# Altium schematic symbol library Componentes_base.SchLib: 431 symbols (part 6 of 12)
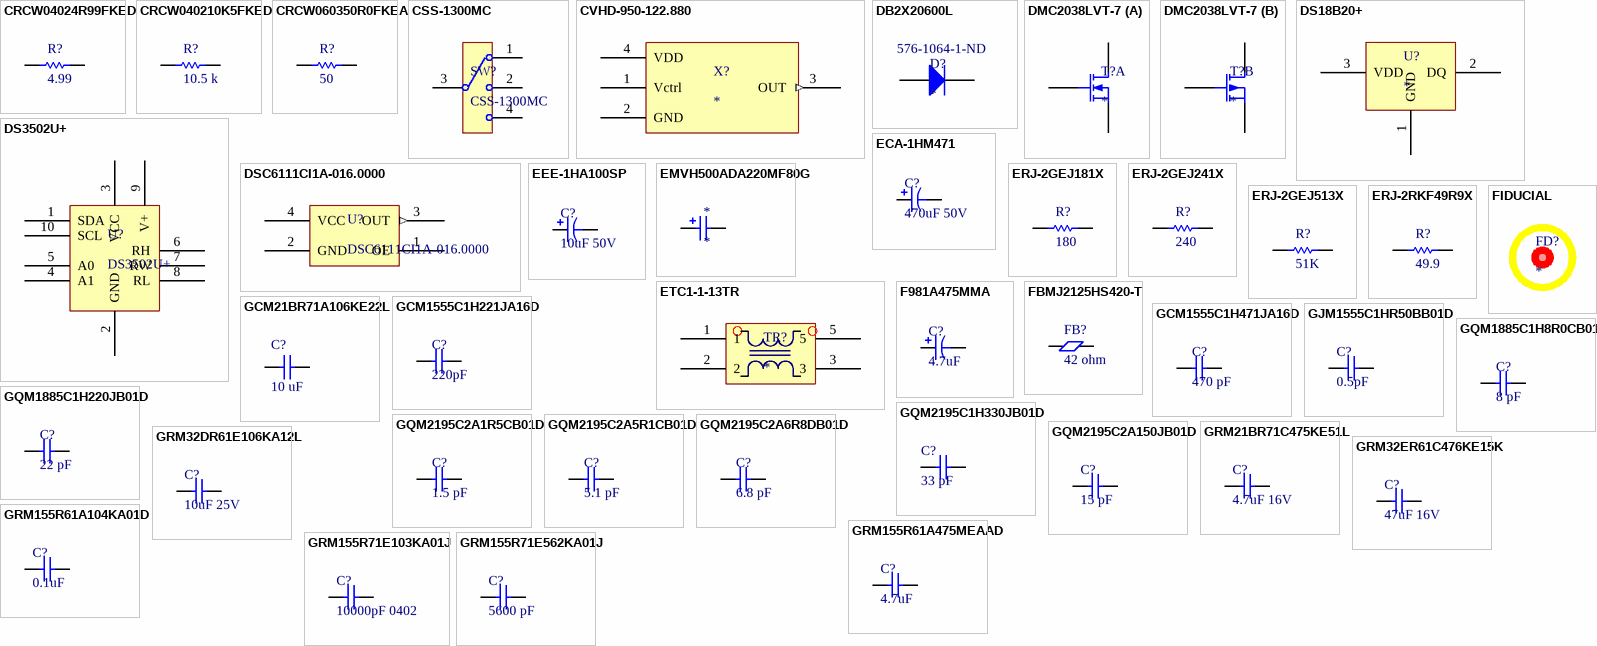
[diagram p19: symbols CRCW04024R99FKED to GRM155R71E562KA01J]

## GQM2195C1H330JB01D
designator C?, comment 33 pF
Multilayer Ceramic Capacitors MLCC - SMD/SMT 0805 33pF 50volts C0G 5%; Manufacturer: Murata Electronics; Manufacturer Part Number: GQM2195C1H330JB01D; Type: High Frequency High Q Type; Voltage Rating DC: 50 V; Case Height: 0.85 mm; Case Length: 2 mm; Case Width: 1.25 mm; Dielectric: C0G (NP0); Temperature Coefficient/Code: +/- 30 PPM / C; Voltage - Rated: 50V; Temperature Coefficient: C0G, NP0; Supplier 1: Mouser; Supplier Part Number 1: 81-GQM2195C1H330JB01; RoHS: RoHS Compliant; Category: Multilayer Ceramic Capacitors MLCC - SMD/SMT; Stock 1: 4972; Pricing 1: 1=0.683, 10=0.388, 100=0.237, 1000=0.218, 4000=0.147, 8000=0.133, 24000=0.131 (EUR); Capacitance: 33 pF; Operating Temperature Range: - 55 C to + 125 C; Package/Case: 0805 (2012 metric); Packaging: Reel; Product: High Q MLCCs; Series: GQM; Termination Style: SMD/SMT; Tolerance: 5 %; Brand: Murata Electronics; Case Code - in: 0805; Case Code - mm: 2012; Maximum Operating Temperature: + 125 C; Minimum Operating Temperature: - 55 C; Product Category: Low & Medium Capacitance SMD Ceramic Chip Capacitors; Standard Pack Qty: 4000; RoHS - Mouser: Y; Minimum Order Quantity: 1; Reeling: True; ComponentLink1URL: http://www.mouser.com/ds/2/281/product-238724.pdf; ComponentLink1Description: http://www.mouser.com/ds/2/281/product-238724.pdf; Supplier 2: Digi-Key; Supplier Part Number 2: 490-3610-1-ND; Stock 2: 8128; Pricing 2: 1=0.7, 10=0.673, 50=0.4022, 100=0.3267, 250=0.2714, 500=0.24626, 1000=0.22173 (EUR); Mounting Type: Surface Mount, MLCC; Operating Temperature: -55°C ~ 125°C; Applications: RF, Microwave, High Frequency; Ratings: -; Package / Case: 0805 (2012 Metric); Size / Dimension: 0.079" L x 0.049" W (2.00mm x 1.25mm); Height - Seated (Max): -; Thickness (Max): 0.037" (0.95mm); Lead Spacing: -; Features: High Q, Low Loss; Lead Style: -; ComponentLink2URL: http://www.murata.com/products/catalog/pdf/c02e.pdf; ComponentLink2Description: http://www.murata.com/products/catalog/pdf/c02e.pdf
footprint CAPC2012X08L (Chip Capacitor, 2-Leads, Body 2,00x1,25mm, IPC High Density)
pins: 1, 2

## GQM2195C2A1R5CB01D
designator C?, comment 1.5 pF
CAP CER 1.5PF 100V NP0 0805; Manufacturer: Murata Electronics North America; Manufacturer Part Number: GQM2195C2A1R5CB01D; Tolerance: ±0.25pF; Temperature Coefficient: C0G, NP0; Type: High Frequency High Q Type; Brand: Murata Electronics; Dielectric: C0G (NP0); Supplier 1: Digi-Key; RoHS: RoHS Compliant; Category: Capacitors; Stock 1: 27425; Pricing 1: 1=0.63, 10=0.606, 50=0.3614, 100=0.2936, 250=0.24396, 500=0.22138, 1000=0.20331 (EUR); Packaging: Cut Tape (CT); Capacitance: 1.5pF; Voltage - Rated: 100V; Mounting Type: Surface Mount, MLCC; Operating Temperature: -55°C ~ 125°C; Applications: RF, Microwave, High Frequency; Ratings: -; Package / Case: 0805 (2012 Metric); Size / Dimension: 0.079" L x 0.049" W (2.00mm x 1.25mm); Height - Seated (Max): -; Thickness (Max): 0.037" (0.95mm); Lead Spacing: -; Features: High Q, Low Loss; Lead Style: -; ComponentLink1URL: http://www.murata.com/~/media/webrenewal/support/library/catalog/products/capacitor/mlcc/c02e.ashx; ComponentLink1Description: http://www.murata.com/~/media/webrenewal/support/library/catalog/products/capacitor/mlcc/c02e.ashx; Supplier 2: Mouser; Stock 2: 2678; Pricing 2: 1=0.643, 10=0.614, 100=0.247, 1000=0.205, 4000=0.137, 8000=0.128, 24000=0.124, 100000=0.117 (EUR); Height: 0.85 mm; Length: 2 mm; Package/Case: 0805 (2012 metric); Product: High Q MLCCs; Series: GQM; Termination Style: SMD/SMT; Voltage Rating DC: 100 V; Width: 1.25 mm; Case Code - in: 0805; Case Code - mm: 2012; Maximum Operating Temperature: + 125 C; Minimum Operating Temperature: - 55 C; Product Category: Low & Medium Capacitance SMD Ceramic Chip Capacitors; Standard Pack Qty: 4000; RoHS - Mouser: Y; Minimum Order Quantity: 1; Reeling: True; ComponentLink2URL: http://www.mouser.com/ds/2/281/c02e-2905.pdf; ComponentLink2Description: http://www.mouser.com/ds/2/281/c02e-2905.pdf; Supplier Part Number 1: 490-3587-1-ND; Supplier Part Number 2: 81-GQM2195C2A1R5CB01
footprint CAPC2012X08L (Chip Capacitor, 2-Leads, Body 2,00x1,25mm, IPC High Density)
pins: 1, 2

## GQM2195C2A5R1CB01D
designator C?, comment 5.1 pF
CAP CER 5.1PF 100V NP0 0805; Manufacturer: Murata Electronics North America; Manufacturer Part Number: GQM2195C2A5R1CB01D; Tolerance: ±0.25pF; Temperature Coefficient: C0G, NP0; Type: High Frequency High Q Type; Brand: Murata Electronics; Dielectric: C0G (NP0); Supplier 1: Digi-Key; RoHS: RoHS Compliant; Category: Capacitors; Stock 1: 14363; Pricing 1: 1=0.63, 10=0.606, 50=0.3614, 100=0.2936, 250=0.24396, 500=0.22138, 1000=0.20331 (EUR); Packaging: Cut Tape (CT); Capacitance: 5.1pF; Voltage - Rated: 100V; Mounting Type: Surface Mount, MLCC; Operating Temperature: -55°C ~ 125°C; Applications: RF, Microwave, High Frequency; Ratings: -; Package / Case: 0805 (2012 Metric); Size / Dimension: 0.079" L x 0.049" W (2.00mm x 1.25mm); Height - Seated (Max): -; Thickness (Max): 0.037" (0.95mm); Lead Spacing: -; Features: High Q, Low Loss; Lead Style: -; ComponentLink1URL: http://www.murata.com/~/media/webrenewal/support/library/catalog/products/capacitor/mlcc/c02e.ashx; ComponentLink1Description: http://www.murata.com/~/media/webrenewal/support/library/catalog/products/capacitor/mlcc/c02e.ashx; Supplier 2: Mouser; Stock 2: 825; Pricing 2: 1=0.643, 10=0.614, 100=0.247, 1000=0.205, 4000=0.137, 8000=0.128, 24000=0.124, 48000=0.119, 100000=0.117 (EUR); Height: 0.85 mm; Length: 2 mm; Package/Case: 0805 (2012 metric); Product: High Q MLCCs; Series: GQM; Termination Style: SMD/SMT; Voltage Rating DC: 100 V; Width: 1.25 mm; Case Code - in: 0805; Case Code - mm: 2012; Maximum Operating Temperature: + 125 C; Minimum Operating Temperature: - 55 C; Product Category: Low & Medium Capacitance SMD Ceramic Chip Capacitors; Standard Pack Qty: 4000; RoHS - Mouser: Y; Minimum Order Quantity: 1; Reeling: True; ComponentLink2URL: http://www.mouser.com/ds/2/281/c02e-2905.pdf; ComponentLink2Description: http://www.mouser.com/ds/2/281/c02e-2905.pdf; Supplier Part Number 1: 490-3592-1-ND; Supplier Part Number 2: 81-GQM2195C2A5R1CB01
footprint CAPC2012X08L (Chip Capacitor, 2-Leads, Body 2,00x1,25mm, IPC High Density)
pins: 1, 2

## GQM2195C2A6R8DB01D
designator C?, comment 6.8 pF
CAP CER 6.8PF 100V NP0 0805; Manufacturer: Murata Electronics North America; Manufacturer Part Number: GQM2195C2A6R8DB01D; Tolerance: ±0.5pF; Temperature Coefficient: C0G, NP0; Supplier 1: Digi-Key; RoHS: RoHS Compliant; Category: Capacitors; Stock 1: 0; Pricing 1: 4000=0.13554, 8000=0.1265, 12000=0.12424, 28000=0.12199, 100000=0.11295 (EUR); Packaging: Tape & Reel (TR); Capacitance: 6.8pF; Voltage - Rated: 100V; Mounting Type: Surface Mount, MLCC; Operating Temperature: -55°C ~ 125°C; Applications: RF, Microwave, High Frequency; Ratings: -; Package / Case: 0805 (2012 Metric); Size / Dimension: 0.079" L x 0.049" W (2.00mm x 1.25mm); Height - Seated (Max): -; Thickness (Max): 0.037" (0.95mm); Lead Spacing: -; Features: High Q, Low Loss; Lead Style: -; ComponentLink1URL: http://www.murata.com/~/media/webrenewal/support/library/catalog/products/capacitor/mlcc/c02e.ashx; ComponentLink1Description: http://www.murata.com/~/media/webrenewal/support/library/catalog/products/capacitor/mlcc/c02e.ashx; Supplier Part Number 1: 490-8142-2-ND
footprint CAPC2012X08L (Chip Capacitor, 2-Leads, Body 2,00x1,25mm, IPC High Density)
pins: 1, 2

## GQM2195C2A150JB01D
designator C?, comment 15 pF
CAP CER 15PF 100V 5% NP0 0805; Manufacturer: Murata Electronics; Manufacturer Part Number: GQM2195C2A150JB01D; Type: High Frequency High Q Type; Case Height: 0.85 mm; Case Length: 2 mm; Case Width: 1.25 mm; Dielectric: C0G (NP0); Temperature Coefficient/Code: +/- 30 PPM / C; Temperature Coefficient: C0G, NP0; Supplier 1: Mouser; Supplier Part Number 1: 81-GQM2195C2A150JB01; RoHS: RoHS Compliant; Category: Multilayer Ceramic Capacitors MLCC - SMD/SMT; Stock 1: 4672; Pricing 1: 1=0.787, 10=0.667, 100=0.327, 1000=0.270, 4000=0.176, 8000=0.170, 24000=0.163 (EUR); Capacitance: 15 pF; Operating Temperature Range: - 55 C to + 125 C; Package/Case: 0805 (2012 metric); Packaging: Reel; Product: High Q MLCCs; Series: GQM; Termination Style: SMD/SMT; Tolerance: 5 %; Voltage Rating DC: 100 V; Brand: Murata Electronics; Case Code - in: 0805; Case Code - mm: 2012; Maximum Operating Temperature: + 125 C; Minimum Operating Temperature: - 55 C; Product Category: Low & Medium Capacitance SMD Ceramic Chip Capacitors; Standard Pack Qty: 4000; RoHS - Mouser: Y; Minimum Order Quantity: 1; Reeling: True; ComponentLink1URL: http://www.mouser.com/ds/2/281/product-238756.pdf; ComponentLink1Description: http://www.mouser.com/ds/2/281/product-238756.pdf; Supplier 2: Digi-Key; Supplier Part Number 2: 490-3605-1-ND; Stock 2: 8273; Pricing 2: 1=0.8, 10=0.678, 50=0.4992, 100=0.3969, 250=0.33288, 500=0.30086, 1000=0.27526 (EUR); Voltage - Rated: 100V; Mounting Type: Surface Mount, MLCC; Operating Temperature: -55°C ~ 125°C; Applications: RF, Microwave, High Frequency; Ratings: -; Package / Case: 0805 (2012 Metric); Size / Dimension: 0.079" L x 0.049" W (2.00mm x 1.25mm); Height - Seated (Max): -; Thickness (Max): 0.037" (0.95mm); Lead Spacing: -; Features: High Q, Low Loss; Lead Style: -; ComponentLink2URL: http://www.murata.com/products/catalog/pdf/c02e.pdf; ComponentLink2Description: http://www.murata.com/products/catalog/pdf/c02e.pdf
footprint CAPC2012X08L (Chip Capacitor, 2-Leads, Body 2,00x1,25mm, IPC High Density)
pins: 1, 2

## GRM21BR71C475KE51L
designator C?, comment 4.7uF 16V
CAP CER 4.7UF 16V X7R 0805; Manufacturer: Murata Electronics North America; Manufacturer Part Number: GRM21BR71C475KE51L; Capacitance: 4.7µF; Tolerance: ±10%; Supplier 1: Digi-Key; RoHS: RoHS Compliant; Category: Capacitors; Stock 1: 5810; Pricing 1: 1=0.16, 10=0.111, 25=0.0816, 50=0.0666, 100=0.0562, 250=0.04588, 500=0.03848, 1000=0.03403 (EUR); Part Status: Active; Voltage - Rated: 16V; Temperature Coefficient: X7R; Operating Temperature: -55°C ~ 125°C; Features: -; Ratings: -; Applications: General Purpose; Failure Rate: -; Mounting Type: Surface Mount, MLCC; Package / Case: 0805 (2012 Metric); Size / Dimension: 0.079" L x 0.049" W (2.00mm x 1.25mm); Height - Seated (Max): -; Thickness (Max): 0.055" (1.40mm); Lead Spacing: -; Lead Style: -; Supplier Part Number 1: 490-14466-6-ND
footprint 0805 CAP (Chip Capacitor, 2-Leads, Body 2,00x1,25mm, IPC Medium Density)
pins: 1, 2

## GRM32DR61E106KA12L
designator C?, comment 10uF 25V
CAP CER 10UF 25V X5R 1210; Manufacturer: Murata; Manufacturer Part Number: GRM32DR61E106KA12L; Capacitance: 10; Voltage Rating: 25; Min Temperature: -55; Supplier 1: Digikey; Stock 1: 39877; Pricing 1: 1=0.53, 10=0.46, 50=0.279, 100=0.2298, 250=0.1838, 500=0.1674 (USD); Mount: Surface Mount; Case/Package: 1210; Pins: 2; Case Code (Imperial): 1210; Case Code (Metric): 3225; Min Operating Temperature: -55; Max Operating Temperature: 85; Tolerance: 10; Dielectric: X5R; Packaging: Tape and Reel; Voltage Rating (DC): 25; Package Quantity: 1000; Termination: SMD; Voltage: 25; Length: 3.2; Height: 2; Depth: 2.5; Width: 2.5; Thickness: 0.087; Radiation Hardening: No; REACH SVHC: No SVHC; ComponentLink1URL: https://datasheet.ciiva.com/3777/3578grm32dr61e106ka1223-3777290.pdf; ComponentLink1Description: https://datasheet.ciiva.com/3777/3578grm32dr61e106ka1223-3777290.pdf; ComponentLink2URL: https://datasheet.ciiva.com/19476/1859706-19476365.pdf; ComponentLink2Description: https://datasheet.ciiva.com/19476/1859706-19476365.pdf; ComponentLink3URL: https://datasheet.ciiva.com/26787/grm32dr61e106ka12l-26787032.pdf; ComponentLink3Description: https://datasheet.ciiva.com/26787/grm32dr61e106ka12l-26787032.pdf; ComponentLink4URL: https://datasheet.ciiva.com/141/partnumbering-e-01-141352.pdf; ComponentLink4Description: https://datasheet.ciiva.com/141/partnumbering-e-01-141352.pdf; ComponentLink5URL: https://datasheet.ciiva.com/11464/product-11464012.pdf; ComponentLink5Description: https://datasheet.ciiva.com/11464/product-11464012.pdf; ComponentLink6URL: https://datasheet.ciiva.com/11464/product-11464011.pdf; ComponentLink6Description: https://datasheet.ciiva.com/11464/product-11464011.pdf; ComponentLink7URL: https://datasheet.ciiva.com/141/partnumbering-e-01-141353.pdf; ComponentLink7Description: https://datasheet.ciiva.com/141/partnumbering-e-01-141353.pdf; ComponentLink8URL: https://datasheet.ciiva.com/141/partnumbering-e-01-141354.pdf; ComponentLink8Description: https://datasheet.ciiva.com/141/partnumbering-e-01-141354.pdf; Supplier Part Number 1: 490-1878-6-ND
footprint SM127P600-8N-1210C
pins: 1, 2

## GRM32ER61C476KE15K
designator C?, comment 47uF 16V
Multilayer Ceramic Capacitors MLCC - SMD/SMT 47uF 16Volts 10%; Manufacturer: Murata; Manufacturer Part Number: GRM32ER61C476KE15K; Capacitance: 47; Tolerance: 10; Voltage Rating: 16; Dielectric: X5R; Min Temperature: -55; Supplier 1: Digikey; Stock 1: 0; Pricing 1: 4000=0.2789 (USD); Mount: Surface Mount; Case/Package: 1210; Case Code (Metric): 3225; Case Code (Imperial): 1210; Min Operating Temperature: -55; Max Operating Temperature: 85; Package Quantity: 4000; Packaging: Tape and Reel; Voltage Rating (DC): 16; Termination: SMD; Voltage: 16; Length: 3.2; Height: 2.5; Width: 0.098; Thickness: 0.106; Depth: 2.5; Radiation Hardening: No; REACH SVHC: No SVHC; ComponentLink1URL: https://datasheet.ciiva.com/11606/product-11606518.pdf; ComponentLink1Description: https://datasheet.ciiva.com/11606/product-11606518.pdf; Supplier Part Number 1: GRM32ER61C476KE15K-ND; RoHS: YES; ComponentLink2URL: http://www.avx.com/docs/Catalogs/cpack.pdf; ComponentLink2Description: http://www.avx.com/docs/Catalogs/cpack.pdf; ComponentLink3URL: http://www.farnell.com/datasheets/2068140.pdf; ComponentLink3Description: http://www.farnell.com/datasheets/2068140.pdf
footprint 0603 Cap (Chip Capacitor, Body 1.6x0.8mm, IPC High Density)
pins: 1, 2

## GRM155R61A104KA01D
designator C?, comment 0.1uF
CAP CER 0.1UF 10V X5R 0402; Manufacturer: Murata Electronics North America; Manufacturer Part Number: GRM155R61A104KA01D; Tolerance: ±10%; Supplier 1: Digi-Key; RoHS: RoHS Compliant; Category: Capacitors; Stock 1: 9053665; Pricing 1: 1=0.19, 10=0.027, 100=0.0119, 500=0.00854, 1000=0.00672, 2500=0.00611, 5000=0.00562 (EUR); Packaging: Cut Tape (CT); Part Status: Active; Voltage - Rated: 10V; Temperature Coefficient: X5R; Operating Temperature: -55°C ~ 85°C; Features: -; Ratings: -; Applications: General Purpose; Mounting Type: Surface Mount, MLCC; Package / Case: 0402 (1005 Metric); Size / Dimension: 0.039" L x 0.020" W (1.00mm x 0.50mm); Height - Seated (Max): -; Thickness (Max): 0.022" (0.55mm); Lead Spacing: -; Lead Style: -; ComponentLink1URL: http://www.murata.com/~/media/webrenewal/support/library/catalog/products/capacitor/mlcc/c02e.ashx; ComponentLink1Description: http://www.murata.com/~/media/webrenewal/support/library/catalog/products/capacitor/mlcc/c02e.ashx; Supplier Part Number 1: 490-1318-1-ND
footprint CAPC1005X05L (Chip Capacitor, 2-Leads, Body 1,00x0,50mm, IPC High Density)
pins: 1, 2

## GRM155R61A475MEAAD
designator C?, comment 4.7uF
CAP CER 4.7UF 10V X5R 0402; Manufacturer: Murata Electronics North America; Manufacturer Part Number: GRM155R61A475MEAAD; Tolerance: ±20%; Supplier 1: Digi-Key; RoHS: RoHS Compliant; Category: Capacitors; Stock 1: 139158; Pricing 1: 1=0.22, 10=0.148, 100=0.0751, 500=0.05138, 1000=0.04545, 2500=0.04347, 5000=0.03952 (EUR); Packaging: Cut Tape (CT); Part Status: Active; Voltage - Rated: 10V; Temperature Coefficient: X5R; Operating Temperature: -55°C ~ 85°C; Features: -; Ratings: -; Applications: General Purpose; Failure Rate: -; Mounting Type: Surface Mount, MLCC; Package / Case: 0402 (1005 Metric); Size / Dimension: 0.039" L x 0.020" W (1.00mm x 0.50mm); Height - Seated (Max): -; Thickness (Max): 0.026" (0.65mm); Lead Spacing: -; Lead Style: -; ComponentLink1URL: http://search.murata.co.jp/Ceramy/image/img/A01X/G101/ENG/GRM155R61A475MEAA-01.pdf; ComponentLink1Description: http://search.murata.co.jp/Ceramy/image/img/A01X/G101/ENG/GRM155R61A475MEAA-01.pdf; Supplier Part Number 1: 490-14306-1-ND
footprint CAPC1005X05L (Chip Capacitor, 2-Leads, Body 1,00x0,50mm, IPC High Density)
pins: 1, 2

## GRM155R71E103KA01J
designator C?, comment 10000pF 0402
CAP CER 10000PF 25V X7R 0402; Manufacturer: Murata Electronics North America; Manufacturer Part Number: GRM155R71E103KA01J; Tolerance: ±10%; Supplier 1: Digi-Key; RoHS: RoHS Compliant; Category: Capacitors; Stock 1: 146109; Pricing 1: 1=0.16, 10=0.021, 100=0.009, 500=0.00648, 1000=0.0051, 2500=0.00463, 5000=0.00426 (EUR); Packaging: Digi-Reel®; Part Status: Active; Voltage - Rated: 25V; Temperature Coefficient: X7R; Operating Temperature: -55°C ~ 125°C; Features: -; Ratings: -; Applications: General Purpose; Mounting Type: Surface Mount, MLCC; Package / Case: 0402 (1005 Metric); Size / Dimension: 0.039" L x 0.020" W (1.00mm x 0.50mm); Height - Seated (Max): -; Thickness (Max): 0.022" (0.55mm); Lead Spacing: -; ComponentLink1URL: http://www.murata.com/~/media/webrenewal/support/library/catalog/products/capacitor/mlcc/c02e.ashx; ComponentLink1Description: http://www.murata.com/~/media/webrenewal/support/library/catalog/products/capacitor/mlcc/c02e.ashx; Supplier Part Number 1: 490-6341-6-ND
footprint RESC1005X04L (Chip Resistor, 2-Leads, Body 1,00x0,50mm, IPC High Density)
pins: 1, 2

## GRM155R71E562KA01J
designator C?, comment 5600 pF
Multilayer Ceramic Capacitors MLCC - SMD/SMT 0.0056uF 25volts 10%; Manufacturer: Murata Electronics; Manufacturer Part Number: GRM155R71E562KA01J; Type: General Purpose MLCC; Voltage Rating DC: 25 V; Dielectric: X7R; Supplier 1: Mouser; RoHS: RoHS Compliant; Category: Multilayer Ceramic Capacitors MLCC - SMD/SMT; Stock 1: 84744; Pricing 1: 1=0.091, 10=0.011, 100=0.006, 1000=0.005, 10000=0.004, 50000=0.003 (EUR); Capacitance: 5600 pF; Height: 0.5 mm; Length: 1 mm; Package/Case: 0402 (1005 metric); Packaging: Reel; Product: General Type MLCCs; Series: GRM; Termination Style: SMD/SMT; Tolerance: 10 %; Width: 0.5 mm; Brand: Murata Electronics; Case Code - in: 0402; Case Code - mm: 1005; Maximum Operating Temperature: + 125 C; Minimum Operating Temperature: - 55 C; Standard Pack Qty: 50000; RoHS - Mouser: Y; Minimum Order Quantity: 1; Reeling: True; ComponentLink1URL: http://www.mouser.com/ds/2/281/c02e-2905.pdf; ComponentLink1Description: http://www.mouser.com/ds/2/281/c02e-2905.pdf; Supplier Part Number 1: 81-GRM155R71E562KA1J
footprint CAPC1005X05L (Chip Capacitor, 2-Leads, Body 1,00x0,50mm, IPC High Density)
pins: 1, 2

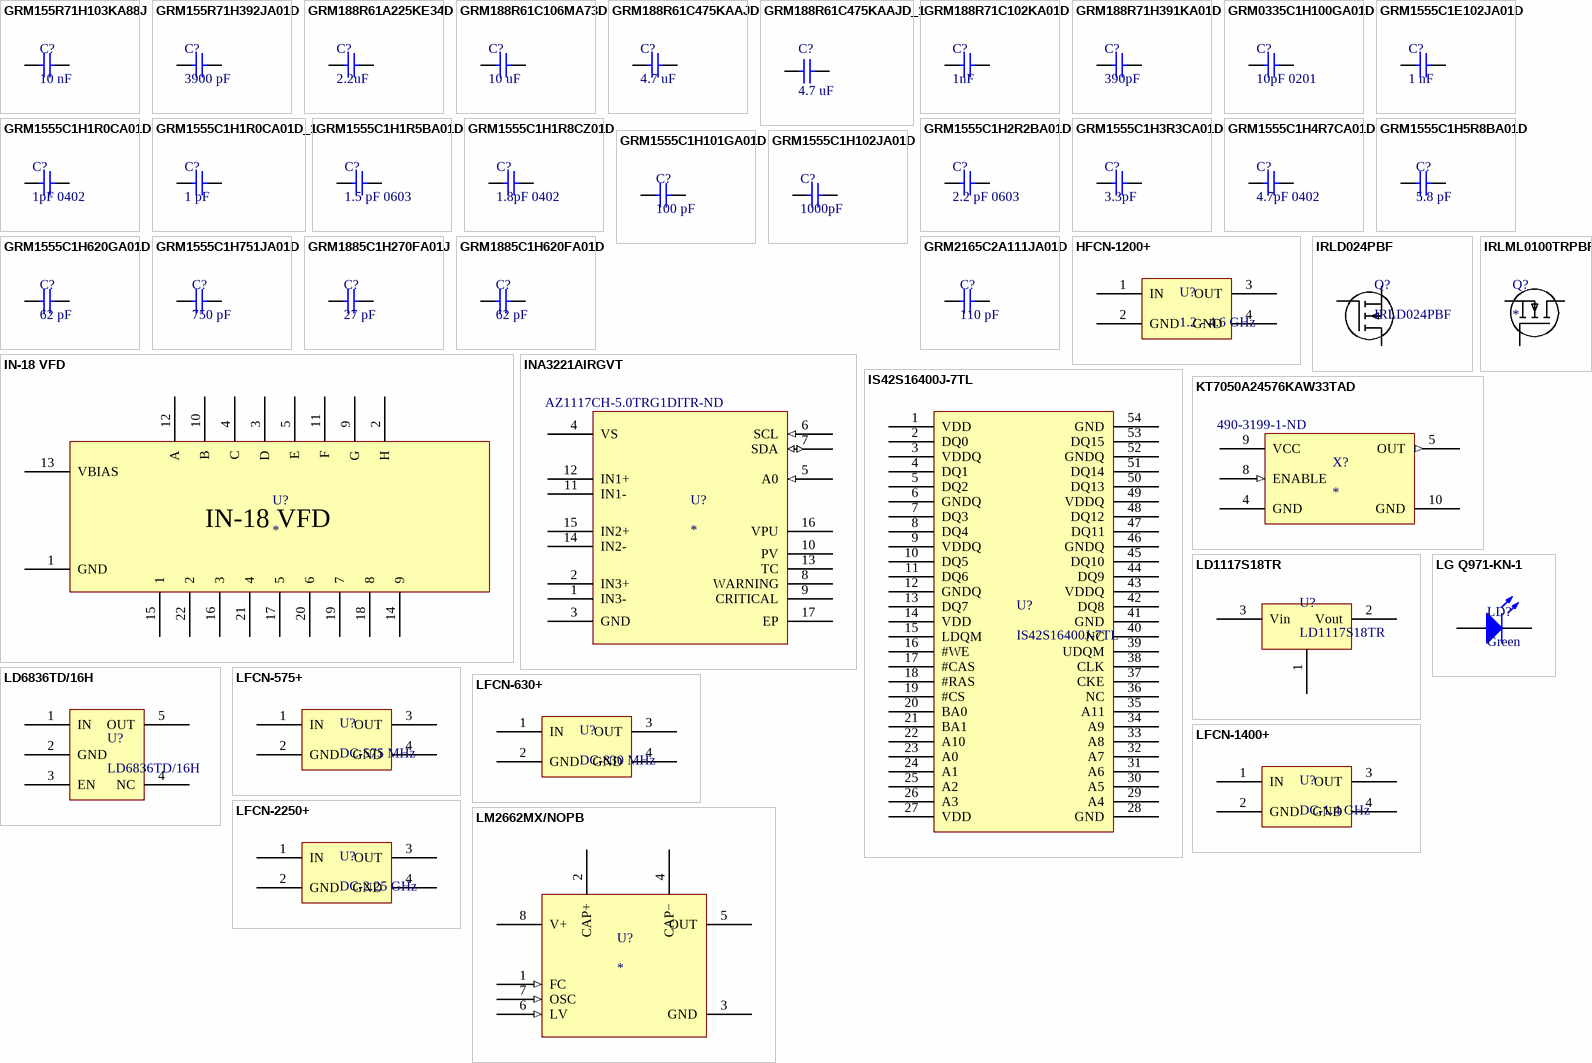
[diagram p6: symbols GRM155R71H103KA88J to LM2662MX/NOPB]

## GRM155R71H103KA88J
designator C?, comment 10 nF
Multilayer Ceramic Capacitors MLCC - SMD/SMT 0.01uF 50 volts 10%; Manufacturer: Murata Electronics; Manufacturer Part Number: GRM155R71H103KA88J; Type: General Purpose MLCC; Voltage Rating DC: 50 V; Dielectric: X7R; Supplier 1: Mouser; RoHS: RoHS Compliant; Category: Multilayer Ceramic Capacitors MLCC - SMD/SMT; Stock 1: 0; Pricing 1: 1=0.118, 10=0.015, 100=0.009, 1000=0.007, 2500=0.006, 10000=0.005, 50000=0.005, 100000=0.004 (EUR); Capacitance: 0.01 uF; Height: 0.5 mm; Length: 1 mm; Package/Case: 0402 (1005 metric); Packaging: Reel; Product: General Type MLCCs; Series: GRM; Termination Style: SMD/SMT; Tolerance: 10 %; Width: 0.5 mm; Brand: Murata Electronics; Case Code - in: 0402; Case Code - mm: 1005; Maximum Operating Temperature: + 125 C; Minimum Operating Temperature: - 55 C; Standard Pack Qty: 50000; RoHS - Mouser: Y; Minimum Order Quantity: 1; Reeling: True; ComponentLink1URL: http://www.mouser.com/ds/2/281/c02e-2905.pdf; ComponentLink1Description: http://www.mouser.com/ds/2/281/c02e-2905.pdf; Supplier Part Number 1: 81-GRM155R71H103KA8J
footprint CAPC1005X05L (Chip Capacitor, 2-Leads, Body 1,00x0,50mm, IPC High Density)
pins: 1, 2

## GRM155R71H392JA01D
designator C?, comment 3900 pF
Multilayer Ceramic Capacitors MLCC - SMD/SMT 0402 3900pF 50volts 5%; Manufacturer: Murata Electronics; Manufacturer Part Number: GRM155R71H392JA01D; Type: General Purpose MLCC; Voltage Rating DC: 50 V; Dielectric: X7R; Voltage - Rated: 50V; Supplier 1: Mouser; RoHS: RoHS Compliant; Category: Multilayer Ceramic Capacitors MLCC - SMD/SMT; Stock 1: 58202; Pricing 1: 1=0.091, 10=0.009, 100=0.005, 2500=0.004, 10000=0.003 (EUR); Capacitance: 3900 pF; Height: 0.5 mm; Length: 1 mm; Package/Case: 0402 (1005 metric); Packaging: Reel; Product: General Type MLCCs; Series: GRM; Termination Style: SMD/SMT; Tolerance: 5 %; Width: 0.5 mm; Brand: Murata Electronics; Case Code - in: 0402; Case Code - mm: 1005; Maximum Operating Temperature: + 125 C; Minimum Operating Temperature: - 55 C; Product Category: Low & Medium Capacitance SMD Ceramic Chip Capacitors; Standard Pack Qty: 10000; RoHS - Mouser: Y; Minimum Order Quantity: 1; Reeling: True; ComponentLink1URL: http://www.mouser.com/ds/2/281/c02e-2905.pdf; ComponentLink1Description: http://www.mouser.com/ds/2/281/c02e-2905.pdf; Temperature Coefficient: X7R; Mounting Type: Surface Mount, MLCC; Operating Temperature: -55°C ~ 125°C; Applications: General Purpose; Ratings: -; Package / Case: 0402 (1005 Metric); Size / Dimension: 0.039" L x 0.020" W (1.00mm x 0.50mm); Height - Seated (Max): -; Thickness (Max): 0.022" (0.55mm); Lead Spacing: -; Features: -; Lead Style: -; ComponentLink2URL: http://www.murata.com/~/media/webrenewal/support/library/catalog/products/capacitor/mlcc/c02e.ashx; ComponentLink2Description: http://www.murata.com/~/media/webrenewal/support/library/catalog/products/capacitor/mlcc/c02e.ashx; Supplier Part Number 1: 81-GRM155R71H392JA1D; Part Status: Active
footprint CAPC1005X05L (Chip Capacitor, 2-Leads, Body 1,00x0,50mm, IPC High Density)
pins: 1, 2

## GRM188R61A225KE34D
designator C?, comment 2.2uF
CAP CER 2.2UF 10V X5R 0603; Manufacturer: Murata Electronics North America; Manufacturer Part Number: GRM188R61A225KE34D; Tolerance: ±10%; Supplier 1: Digi-Key; RoHS: RoHS Compliant; Category: Capacitors; Stock 1: 459528; Pricing 1: 1=0.15, 10=0.11, 100=0.0514, 500=0.03602, 1000=0.02982 (EUR); Packaging: Digi-Reel®; Part Status: Active; Voltage - Rated: 10V; Temperature Coefficient: X5R; Operating Temperature: -55°C ~ 85°C; Features: -; Ratings: -; Applications: General Purpose; Mounting Type: Surface Mount, MLCC; Package / Case: 0603 (1608 Metric); Size / Dimension: 0.063" L x 0.031" W (1.60mm x 0.80mm); Height - Seated (Max): -; Thickness (Max): 0.035" (0.90mm); Lead Spacing: -; Lead Style: -; ComponentLink1URL: http://www.murata.com/~/media/webrenewal/support/library/catalog/products/capacitor/mlcc/c02e.ashx; ComponentLink1Description: http://www.murata.com/~/media/webrenewal/support/library/catalog/products/capacitor/mlcc/c02e.ashx; Supplier Part Number 1: 490-1545-6-ND
footprint 0603 Cap (Chip Capacitor, Body 1.6x0.8mm, IPC High Density)
pins: 1, 2

## GRM188R61C106MA73D
designator C?, comment 10 uF
CAP CER 10UF 16V 20% X5R 0603; Manufacturer: Murata Electronics North America; Manufacturer Part Number: GRM188R61C106MA73D; Capacitance: 10µF; Supplier 1: Digi-Key; Supplier Part Number 1: 490-7201-1-ND; RoHS: RoHS Compliant; Category: Capacitors; Stock 1: 6341; Pricing 1: 1=0.26, 10=0.247, 25=0.212, 50=0.1802, 100=0.1731, 250=0.15544, 500=0.14838, 1000=0.12365 (EUR); Packaging: Cut Tape (CT); Tolerance: ±20%; Voltage - Rated: 16V; Temperature Coefficient: X5R; Mounting Type: Surface Mount, MLCC; Operating Temperature: -55°C ~ 85°C; Applications: General Purpose; Ratings: -; Package / Case: 0603 (1608 Metric); Size / Dimension: 0.063" L x 0.031" W (1.60mm x 0.80mm); Height - Seated (Max): -; Thickness (Max): 0.031" (0.80mm); Lead Spacing: -; Features: -; Lead Style: -; ComponentLink1URL: http://www.murata.com/~/media/webrenewal/support/library/catalog/products/capacitor/mlcc/c02e.ashx; ComponentLink1Description: http://www.murata.com/~/media/webrenewal/support/library/catalog/products/capacitor/mlcc/c02e.ashx
footprint CAPC1608X10L (Chip Capacitor, 2-Leads, Body 1,60x0,80mm, IPC High Density)
pins: 1, 2

## GRM188R61C475KAAJD
designator C?, comment 4.7 uF
Multilayer Ceramic Capacitors MLCC - SMD/SMT 0603 4.7uF 16volts X5R + - 10%; Manufacturer: Murata Electronics; Manufacturer Part Number: GRM188R61C475KAAJD; Type: General Purpose MLCC; Voltage Rating DC: 16 V; Product Status: New Product; Voltage - Rated: 16V; Supplier 1: Mouser; RoHS: RoHS Compliant; Category: Multilayer Ceramic Capacitors MLCC - SMD/SMT; Stock 1: 10870; Pricing 1: 1=0.262, 10=0.110, 100=0.066, 1000=0.056, 4000=0.042, 8000=0.040, 24000=0.037, 48000=0.035, 100000=0.030 (EUR); Capacitance: 4.7 uF; Height: 0.8 mm; Length: 1.6 mm; Package/Case: 0603 (1608 metric); Packaging: Reel; Product: General Type MLCCs; Series: GRM; Termination Style: SMD/SMT; Tolerance: 10 %; Width: 0.8 mm; Brand: Murata Electronics; Case Code - in: 0603; Case Code - mm: 1608; Dielectric: X5R; Maximum Operating Temperature: + 85 C; Minimum Operating Temperature: - 55 C; RoHS - Mouser: Y; Minimum Order Quantity: 1; Reeling: True; ComponentLink1URL: http://www.mouser.com/ds/2/281/c02e-2905.pdf; ComponentLink1Description: http://www.mouser.com/ds/2/281/c02e-2905.pdf; Supplier 2: Digi-Key; Stock 2: 0; Pricing 2: 1=0.27, 10=0.224, 25=0.154, 50=0.1262, 100=0.112, 250=0.08404, 500=0.07424, 1000=0.06582 (EUR); Temperature Coefficient: X5R; Mounting Type: Surface Mount, MLCC; Operating Temperature: -55°C ~ 85°C; Applications: General Purpose; Ratings: -; Package / Case: 0603 (1608 Metric); Size / Dimension: 0.063" L x 0.031" W (1.60mm x 0.80mm); Height - Seated (Max): -; Thickness (Max): 0.037" (0.95mm); Lead Spacing: -; Features: -; Lead Style: -; ComponentLink2URL: http://www.murata.com/~/media/webrenewal/support/library/catalog/products/capacitor/mlcc/c02e.ashx; ComponentLink2Description: http://www.murata.com/~/media/webrenewal/support/library/catalog/products/capacitor/mlcc/c02e.ashx; Supplier Part Number 1: 81-GRM188R61C475KAJD; Supplier Part Number 2: 490-10481-1-ND
footprint CAPC1608X10L (Chip Capacitor, 2-Leads, Body 1,60x0,80mm, IPC High Density)
pins: 1, 2

## GRM188R61C475KAAJD_1
designator C?, comment 4.7 uF
Multilayer Ceramic Capacitors MLCC - SMD/SMT 0603 4.7uF 16volts X5R + - 10%; Manufacturer: Murata Electronics; Manufacturer Part Number: GRM188R61C475KAAJD; Type: General Purpose MLCC; Voltage Rating DC: 16 V; Product Status: New Product; Voltage - Rated: 16V; Supplier 1: Mouser; RoHS: RoHS Compliant; Category: Multilayer Ceramic Capacitors MLCC - SMD/SMT; Stock 1: 10870; Pricing 1: 1=0.262, 10=0.110, 100=0.066, 1000=0.056, 4000=0.042, 8000=0.040, 24000=0.037, 48000=0.035, 100000=0.030 (EUR); Capacitance: 4.7 uF; Height: 0.8 mm; Length: 1.6 mm; Package/Case: 0603 (1608 metric); Packaging: Reel; Product: General Type MLCCs; Series: GRM; Termination Style: SMD/SMT; Tolerance: 10 %; Width: 0.8 mm; Brand: Murata Electronics; Case Code - in: 0603; Case Code - mm: 1608; Dielectric: X5R; Maximum Operating Temperature: + 85 C; Minimum Operating Temperature: - 55 C; RoHS - Mouser: Y; Minimum Order Quantity: 1; Reeling: True; ComponentLink1URL: http://www.mouser.com/ds/2/281/c02e-2905.pdf; ComponentLink1Description: http://www.mouser.com/ds/2/281/c02e-2905.pdf; Supplier 2: Digi-Key; Stock 2: 0; Pricing 2: 1=0.27, 10=0.224, 25=0.154, 50=0.1262, 100=0.112, 250=0.08404, 500=0.07424, 1000=0.06582 (EUR); Temperature Coefficient: X5R; Mounting Type: Surface Mount, MLCC; Operating Temperature: -55°C ~ 85°C; Applications: General Purpose; Ratings: -; Package / Case: 0603 (1608 Metric); Size / Dimension: 0.063" L x 0.031" W (1.60mm x 0.80mm); Height - Seated (Max): -; Thickness (Max): 0.037" (0.95mm); Lead Spacing: -; Features: -; Lead Style: -; ComponentLink2URL: http://www.murata.com/~/media/webrenewal/support/library/catalog/products/capacitor/mlcc/c02e.ashx; ComponentLink2Description: http://www.murata.com/~/media/webrenewal/support/library/catalog/products/capacitor/mlcc/c02e.ashx; Supplier Part Number 1: 81-GRM188R61C475KAJD; Supplier Part Number 2: 490-10481-1-ND
footprint CAPC1608X10L
pins: 1, 2

## GRM188R71C102KA01D
designator C?, comment 1nF
CAP CER 1000PF 16V X7R 0603; Manufacturer: Murata Electronics North America; Manufacturer Part Number: GRM188R71C102KA01D; Tolerance: ±10%; Supplier 1: Digi-Key; RoHS: RoHS Compliant; Category: Capacitors; Stock 1: 19630; Pricing 1: 1=0.09, 10=0.051, 25=0.0372, 50=0.0278, 100=0.0227, 250=0.019, 500=0.01622, 1000=0.01275 (EUR); Packaging: Digi-Reel®; Part Status: Active; Capacitance: 1000pF; Voltage - Rated: 16V; Temperature Coefficient: X7R; Operating Temperature: -55°C ~ 125°C; Features: -; Ratings: -; Applications: General Purpose; Mounting Type: Surface Mount, MLCC; Package / Case: 0603 (1608 Metric); Size / Dimension: 0.063" L x 0.031" W (1.60mm x 0.80mm); Height - Seated (Max): -; Thickness (Max): 0.035" (0.90mm); Lead Spacing: -; Lead Style: -; ComponentLink1URL: http://www.murata.com/~/media/webrenewal/support/library/catalog/products/capacitor/mlcc/c02e.ashx; ComponentLink1Description: http://www.murata.com/~/media/webrenewal/support/library/catalog/products/capacitor/mlcc/c02e.ashx; Supplier Part Number 1: 490-11509-6-ND
footprint 0603 Cap (Chip Capacitor, Body 1.6x0.8mm, IPC High Density)
pins: 1, 2

## GRM188R71H391KA01D
designator C?, comment 390pF
CAP CER 390PF 50V X7R 0603; Manufacturer: Murata Electronics North America; Manufacturer Part Number: GRM188R71H391KA01D; Tolerance: ±10%; Supplier 1: Digi-Key; RoHS: RoHS Compliant; Category: Capacitors; Stock 1: 52424; Pricing 1: 1=0.09, 10=0.069, 25=0.0504, 50=0.038, 100=0.031, 250=0.02592, 500=0.02212, 1000=0.01739 (EUR); Packaging: Digi-Reel®; Part Status: Active; Capacitance: 390pF; Voltage - Rated: 50V; Temperature Coefficient: X7R; Operating Temperature: -55°C ~ 125°C; Features: -; Ratings: -; Applications: General Purpose; Mounting Type: Surface Mount, MLCC; Package / Case: 0603 (1608 Metric); Size / Dimension: 0.063" L x 0.031" W (1.60mm x 0.80mm); Height - Seated (Max): -; Thickness (Max): 0.035" (0.90mm); Lead Spacing: -; Lead Style: -; ComponentLink1URL: http://www.murata.com/~/media/webrenewal/support/library/catalog/products/capacitor/mlcc/c02e.ashx; ComponentLink1Description: http://www.murata.com/~/media/webrenewal/support/library/catalog/products/capacitor/mlcc/c02e.ashx; Supplier Part Number 1: 490-1555-6-ND
footprint 0603 Cap (Chip Capacitor, Body 1.6x0.8mm, IPC High Density)
pins: 1, 2

## GRM0335C1H100GA01D
designator C?, comment 10pF 0201
CAP CER 10PF 50V C0G/NP0 0201; Manufacturer: Murata Electronics North America; Manufacturer Part Number: GRM0335C1H100GA01D; Tolerance: ±2%; Temperature Coefficient: C0G, NP0; Supplier 1: Digi-Key; RoHS: RoHS Compliant; Category: Capacitors; Stock 1: 9546; Pricing 1: 1=0.08, 10=0.014, 100=0.0061, 500=0.00442, 1000=0.00346, 2500=0.00315, 5000=0.0029 (EUR); Packaging: Cut Tape (CT); Part Status: Active; Voltage - Rated: 50V; Operating Temperature: -55°C ~ 125°C; Features: -; Ratings: -; Applications: General Purpose; Mounting Type: Surface Mount, MLCC; Package / Case: 0201 (0603 Metric); Size / Dimension: 0.024" L x 0.012" W (0.60mm x 0.30mm); Height - Seated (Max): -; Thickness (Max): 0.013" (0.33mm); Lead Spacing: -; Lead Style: -; ComponentLink1URL: http://search.murata.co.jp/Ceramy/image/img/A01X/G101/ENG/GRM0335C1H100GA01-01.pdf; ComponentLink1Description: http://search.murata.co.jp/Ceramy/image/img/A01X/G101/ENG/GRM0335C1H100GA01-01.pdf; Supplier Part Number 1: 490-13414-1-ND
footprint CAPC0603X03N-0201 (Chip Capacitor, 2-Leads, Body 0,60x0,30mm, IPC Medium Density)
pins: 1, 2

## GRM1555C1E102JA01D
designator C?, comment 1 nF
CAP CER 1000PF 25V NP0 0402; Manufacturer: Murata Electronics North America; Manufacturer Part Number: GRM1555C1E102JA01D; Tolerance: ±5%; Temperature Coefficient: C0G, NP0; Supplier 1: Digi-Key; RoHS: RoHS Compliant; Category: Capacitors; Stock 1: 250394; Pricing 1: 1=0.09, 10=0.027, 50=0.0148, 100=0.0124, 250=0.0102, 500=0.00872, 1000=0.00679, 5000=0.00566 (EUR); Packaging: Cut Tape (CT); Part Status: Active; Capacitance: 1000pF; Voltage - Rated: 25V; Operating Temperature: -55°C ~ 125°C; Features: -; Ratings: -; Applications: General Purpose; Mounting Type: Surface Mount, MLCC; Package / Case: 0402 (1005 Metric); Size / Dimension: 0.039" L x 0.020" W (1.00mm x 0.50mm); Height - Seated (Max): -; Thickness (Max): 0.022" (0.55mm); Lead Spacing: -; Lead Style: -; ComponentLink1URL: http://www.murata.com/~/media/webrenewal/support/library/catalog/products/capacitor/mlcc/c02e.ashx; ComponentLink1Description: http://www.murata.com/~/media/webrenewal/support/library/catalog/products/capacitor/mlcc/c02e.ashx; Supplier Part Number 1: 490-6169-1-ND
footprint Chip2PinSM127P600-8N_CAP0402
pins: 1, 2

## GRM1555C1H1R0CA01D
designator C?, comment 1pF 0402
CAP CER 1PF 50V C0G/NP0 0402
footprint CAPC1005X05L (Chip Capacitor, 2-Leads, Body 1,00x0,50mm, IPC High Density)
pins: 1, 2

## GRM1555C1H1R0CA01D_1
designator C?, comment 1 pF
CAP CER 1PF 50V NP0 0402; Manufacturer: Murata Electronics North America; Manufacturer Part Number: GRM1555C1H1R0CA01D; Tolerance: ±0.25pF; Temperature Coefficient: C0G, NP0; Supplier 1: Digi-Key; RoHS: RoHS Compliant; Category: Capacitors; Stock 1: 578899; Pricing 1: 1=0.12, 10=0.02, 50=0.0102, 100=0.0087, 250=0.00712, 500=0.0061, 1000=0.00476, 5000=0.00397 (EUR); Packaging: Cut Tape (CT); Part Status: Active; Capacitance: 1pF; Voltage - Rated: 50V; Operating Temperature: -55°C ~ 125°C; Features: -; Ratings: -; Applications: General Purpose; Mounting Type: Surface Mount, MLCC; Package / Case: 0402 (1005 Metric); Size / Dimension: 0.039" L x 0.020" W (1.00mm x 0.50mm); Height - Seated (Max): -; Thickness (Max): 0.022" (0.55mm); Lead Spacing: -; Lead Style: -; ComponentLink1URL: http://www.murata.com/~/media/webrenewal/support/library/catalog/products/capacitor/mlcc/c02e.ashx; ComponentLink1Description: http://www.murata.com/~/media/webrenewal/support/library/catalog/products/capacitor/mlcc/c02e.ashx; Supplier Part Number 1: 490-3199-1-ND
footprint Chip2PinSM127P600-8N_CAP0402
pins: 1, 2

## GRM1555C1H1R5BA01D
designator C?, comment 1.5 pF 0603
Multilayer Ceramic Capacitors MLCC - SMD/SMT 0402 1.5pF 50volts C0G +/-0.1pF; Manufacturer: Murata Electronics; Manufacturer Part Number: GRM1555C1H1R5BA01D; Tolerance: 0.1 pF; Type: General Purpose MLCC; Voltage Rating DC: 50 V; Case Height: 0.5 mm; Case Length: 1 mm; Dielectric: C0G (NP0); Temperature Coefficient/Code: +/- 30 PPM / C; Voltage - Rated: 50V; Temperature Coefficient: C0G, NP0; Supplier 1: Mouser; Supplier Part Number 1: 81-GRM1555C1H1R5BA1D; RoHS: RoHS Compliant; Category: Multilayer Ceramic Capacitors MLCC - SMD/SMT; Stock 1: 55853; Pricing 1: 1=0.087, 10=0.021, 100=0.012, 1000=0.010, 2500=0.008, 10000=0.007, 20000=0.006, 100000=0.004 (EUR); Capacitance: 1.5 pF; Operating Temperature Range: - 55 C to + 125 C; Package/Case: 0402 (1005 metric); Packaging: Reel; Product: General Type MLCCs; Series: GRM; Termination Style: SMD/SMT; Brand: Murata Electronics; Case Code - in: 0402; Case Code - mm: 1005; Case Width: 0.5 mm; Maximum Operating Temperature: + 125 C; Minimum Operating Temperature: - 55 C; Product Category: Low & Medium Capacitance SMD Ceramic Chip Capacitors; Standard Pack Qty: 10000; RoHS - Mouser: Y; Minimum Order Quantity: 1; Reeling: True; ComponentLink1URL: http://www.mouser.com/ds/2/281/product-233836.pdf; ComponentLink1Description: http://www.mouser.com/ds/2/281/product-233836.pdf; Supplier 2: Digi-Key; Supplier Part Number 2: 490-6212-1-ND; Stock 2: 49058; Pricing 2: 1=0.09, 10=0.038, 50=0.0206, 100=0.0174, 250=0.01424, 500=0.0122, 1000=0.0095, 5000=0.00792 (EUR); Mounting Type: Surface Mount, MLCC; Operating Temperature: -55°C ~ 125°C; Applications: General Purpose; Ratings: -; Package / Case: 0402 (1005 Metric); Size / Dimension: 0.039" L x 0.020" W (1.00mm x 0.50mm); Height - Seated (Max): -; Thickness (Max): 0.022" (0.55mm); Lead Spacing: -; Features: -; Lead Style: -; ComponentLink2URL: http://www.murata.com/~/media/webrenewal/support/library/catalog/products/capacitor/mlcc/c02e.ashx; ComponentLink2Description: http://www.murata.com/~/media/webrenewal/support/library/catalog/products/capacitor/mlcc/c02e.ashx
footprint CAPC1005X05L (Chip Capacitor, 2-Leads, Body 1,00x0,50mm, IPC High Density)
pins: 1, 2

## GRM1555C1H1R8CZ01D
designator C?, comment 1.8pF 0402
CAP CER 1.8PF 50V C0G/NP0 0402; Manufacturer: Murata Electronics North America; Manufacturer Part Number: GRM1555C1H1R8CZ01D; Tolerance: ±0.25pF; Temperature Coefficient: C0G, NP0; Type: Multilayer; Material - Core: Non-Magnetic; Inductance: 22nH; Current Rating: 200mA; Shielding: Unshielded; DC Resistance (DCR): 700 mOhm Max; Q @ Freq: 7 @ 100MHz; Frequency - Self Resonant: 3.5GHz; Supplier 1: Digi-Key; RoHS: RoHS Compliant; Category: Capacitors; Stock 1: 0; Pricing 1: 1=0 (EUR); Packaging: Cut Tape (CT); Part Status: Obsolete; Voltage - Rated: 50V; Operating Temperature: -55°C ~ 125°C; Features: -; Ratings: -; Applications: General Purpose; Mounting Type: Surface Mount, MLCC; Package / Case: 0402 (1005 Metric); Size / Dimension: 0.039" L x 0.020" W (1.00mm x 0.50mm); Height - Seated (Max): -; Thickness (Max): 0.022" (0.55mm); Lead Spacing: -; Lead Style: -; ComponentLink1URL: http://media.digikey.com/pdf/Data%20Sheets/Murata%20PDFs/Chip_Mono_Cer_Caps_C02e_Rev_Dec2016.pdf; ComponentLink1Description: http://media.digikey.com/pdf/Data%20Sheets/Murata%20PDFs/Chip_Mono_Cer_Caps_C02e_Rev_Dec2016.pdf; Supplier Part Number 1: 490-3203-1-ND; Current - Saturation: -; Supplier Device Package: 0402 (1005 Metric); ComponentLink2URL: https://product.tdk.com/info/en/catalog/datasheets/inductor_commercial_high-frequency_mlk1005_en.pdf; ComponentLink2Description: https://product.tdk.com/info/en/catalog/datasheets/inductor_commercial_high-frequency_mlk1005_en.pdf
footprint CAPC1005X05L (Chip Capacitor, 2-Leads, Body 1,00x0,50mm, IPC High Density)
pins: 1, 2

## GRM1555C1H2R2BA01D
designator C?, comment 2.2 pF 0603
Multilayer Ceramic Capacitors MLCC - SMD/SMT 0402 2.2pF 50volts C0G +/-0.1pF; Manufacturer: Murata Electronics; Manufacturer Part Number: GRM1555C1H2R2BA01D; Tolerance: 0.1 pF; Type: General Purpose MLCC; Voltage Rating DC: 50 V; Case Height: 0.5 mm; Case Length: 1 mm; Dielectric: C0G (NP0); Temperature Coefficient/Code: +/- 30 PPM / C; Voltage - Rated: 50V; Temperature Coefficient: C0G, NP0; Supplier 1: Mouser; Supplier Part Number 1: 81-GRM1555C1H2R2BA1D; RoHS: RoHS Compliant; Category: Multilayer Ceramic Capacitors MLCC - SMD/SMT; Stock 1: 106424; Pricing 1: 1=0.087, 10=0.021, 100=0.012, 1000=0.010, 2500=0.008, 10000=0.007, 20000=0.006, 100000=0.004 (EUR); Capacitance: 2.2 pF; Operating Temperature Range: - 55 C to + 125 C; Package/Case: 0402 (1005 metric); Packaging: Reel; Product: General Type MLCCs; Series: GRM; Termination Style: SMD/SMT; Brand: Murata Electronics; Case Code - in: 0402; Case Code - mm: 1005; Case Width: 0.5 mm; Maximum Operating Temperature: + 125 C; Minimum Operating Temperature: - 55 C; Product Category: Low & Medium Capacitance SMD Ceramic Chip Capacitors; Standard Pack Qty: 10000; RoHS - Mouser: Y; Minimum Order Quantity: 1; Reeling: True; ComponentLink1URL: http://www.mouser.com/ds/2/281/product-233902.pdf; ComponentLink1Description: http://www.mouser.com/ds/2/281/product-233902.pdf; Supplier 2: Digi-Key; Supplier Part Number 2: 490-6227-1-ND; Stock 2: 205741; Pricing 2: 1=0.09, 10=0.038, 50=0.0206, 100=0.0174, 250=0.01424, 500=0.0122, 1000=0.0095, 5000=0.00792 (EUR); Mounting Type: Surface Mount, MLCC; Operating Temperature: -55°C ~ 125°C; Applications: General Purpose; Ratings: -; Package / Case: 0402 (1005 Metric); Size / Dimension: 0.039" L x 0.020" W (1.00mm x 0.50mm); Height - Seated (Max): -; Thickness (Max): 0.022" (0.55mm); Lead Spacing: -; Features: -; Lead Style: -; ComponentLink2URL: http://www.murata.com/~/media/webrenewal/support/library/catalog/products/capacitor/mlcc/c02e.ashx; ComponentLink2Description: http://www.murata.com/~/media/webrenewal/support/library/catalog/products/capacitor/mlcc/c02e.ashx
footprint CAPC1005X05L (Chip Capacitor, 2-Leads, Body 1,00x0,50mm, IPC High Density)
pins: 1, 2

## GRM1555C1H3R3CA01D
designator C?, comment 3.3pF
CAP CER 3.3PF 50V C0G/NP0 0402; Manufacturer: Murata Electronics North America; Manufacturer Part Number: GRM1555C1H3R3CA01D; Tolerance: ±0.25pF; Temperature Coefficient: C0G, NP0; Supplier 1: Digi-Key; RoHS: RoHS Compliant; Category: Capacitors; Stock 1: 482647; Pricing 1: 1=0.09, 10=0.012, 100=0.0054, 500=0.00388, 1000=0.00305, 2500=0.00278, 5000=0.00255 (EUR); Packaging: Cut Tape (CT); Part Status: Active; Voltage - Rated: 50V; Operating Temperature: -55°C ~ 125°C; Features: -; Ratings: -; Applications: General Purpose; Mounting Type: Surface Mount, MLCC; Package / Case: 0402 (1005 Metric); Size / Dimension: 0.039" L x 0.020" W (1.00mm x 0.50mm); Height - Seated (Max): -; Thickness (Max): 0.022" (0.55mm); Lead Spacing: -; Lead Style: -; ComponentLink1URL: http://www.murata.com/~/media/webrenewal/support/library/catalog/products/capacitor/mlcc/c02e.ashx; ComponentLink1Description: http://www.murata.com/~/media/webrenewal/support/library/catalog/products/capacitor/mlcc/c02e.ashx; Supplier Part Number 1: 490-5938-1-ND
footprint CAPC1005X05L (Chip Capacitor, 2-Leads, Body 1,00x0,50mm, IPC High Density)
pins: 1, 2

## GRM1555C1H4R7CA01D
designator C?, comment 4.7pF 0402
CAP CER 4.7PF 50V C0G/NP0 0402; Manufacturer: Murata Electronics North America; Manufacturer Part Number: GRM1555C1H4R7CA01D; Tolerance: ±0.25pF; Temperature Coefficient: C0G, NP0; Supplier 1: Digi-Key; RoHS: RoHS Compliant; Category: Capacitors; Stock 1: 136694; Pricing 1: 1=0.11, 10=0.022, 100=0.01, 500=0.00714, 1000=0.00562, 2500=0.00511, 5000=0.0047 (EUR); Packaging: Cut Tape (CT); Part Status: Active; Voltage - Rated: 50V; Operating Temperature: -55°C ~ 125°C; Features: -; Ratings: -; Applications: General Purpose; Mounting Type: Surface Mount, MLCC; Package / Case: 0402 (1005 Metric); Size / Dimension: 0.039" L x 0.020" W (1.00mm x 0.50mm); Height - Seated (Max): -; Thickness (Max): 0.022" (0.55mm); Lead Spacing: -; Lead Style: -; ComponentLink1URL: http://www.murata.com/~/media/webrenewal/support/library/catalog/products/capacitor/mlcc/c02e.ashx; ComponentLink1Description: http://www.murata.com/~/media/webrenewal/support/library/catalog/products/capacitor/mlcc/c02e.ashx; Supplier Part Number 1: 490-5874-1-ND
footprint RESC1005X04L (Chip Resistor, 2-Leads, Body 1,00x0,50mm, IPC High Density)
pins: 1, 2

## GRM1555C1H5R8BA01D
designator C?, comment 5.8 pF
CAP CER 5.8PF 50V NP0 0402; Manufacturer: Murata Electronics North America; Manufacturer Part Number: GRM1555C1H5R8BA01D; Tolerance: ±0.1pF; Temperature Coefficient: C0G, NP0; Type: General Purpose MLCC; Brand: Murata Electronics; Dielectric: C0G (NP0); Supplier 1: Digi-Key; RoHS: Vendor undefined; Category: Capacitors; Stock 1: 10000; Pricing 1: 1=0.09, 10=0.063, 50=0.0342, 100=0.029, 250=0.02368, 500=0.02026, 1000=0.01579, 5000=0.01316 (EUR); Packaging: Cut Tape (CT); Capacitance: 5.8pF; Voltage - Rated: 50V; Mounting Type: Surface Mount, MLCC; Operating Temperature: -55°C ~ 125°C; Applications: General Purpose; Ratings: -; Package / Case: 0402 (1005 Metric); Size / Dimension: 0.039" L x 0.020" W (1.00mm x 0.50mm); Height - Seated (Max): -; Thickness (Max): 0.022" (0.55mm); Lead Spacing: -; Features: -; Lead Style: -; ComponentLink1URL: http://www.murata.com/~/media/webrenewal/support/library/catalog/products/capacitor/mlcc/c02e.ashx; ComponentLink1Description: http://www.murata.com/~/media/webrenewal/support/library/catalog/products/capacitor/mlcc/c02e.ashx; Supplier 2: Mouser; Stock 2: 29695; Pricing 2: 1=0.281, 10=0.035, 100=0.021, 1000=0.016, 2500=0.014, 10000=0.012, 20000=0.010, 50000=0.008, 100000=0.007 (EUR); Height: 0.5 mm; Length: 1 mm; Package/Case: 0402 (1005 metric); Product: General Type MLCCs; Series: GRM; Termination Style: SMD/SMT; Voltage Rating DC: 50 V; Width: 0.5 mm; Case Code - in: 0402; Case Code - mm: 1005; Maximum Operating Temperature: + 125 C; Minimum Operating Temperature: - 55 C; Product Category: Low & Medium Capacitance SMD Ceramic Chip Capacitors; Standard Pack Qty: 10000; RoHS - Mouser: Y; Minimum Order Quantity: 1; Reeling: True; ComponentLink2URL: http://www.mouser.com/ds/2/281/c02e-2905.pdf; ComponentLink2Description: http://www.mouser.com/ds/2/281/c02e-2905.pdf; Supplier Part Number 1: 490-11399-1-ND; Supplier Part Number 2: 81-GRM1555C1H5R8BA1D; Supplier 3: Farnell; Stock 3: 52484; Pricing 3: 10=0,187, 100=0,0374, 500=0,015, 2500=0,0094, 5000=0,0075 (EUR); ComponentLink3URL: http://www.avx.com/docs/Catalogs/cpack.pdf; ComponentLink3Description: http://www.avx.com/docs/Catalogs/cpack.pdf; ComponentLink4URL: http://www.farnell.com/datasheets/2068140.pdf; ComponentLink4Description: http://www.farnell.com/datasheets/2068140.pdf; Supplier Part Number 3: 1327642
footprint CAPC1005X05L (Chip Capacitor, 2-Leads, Body 1,00x0,50mm, IPC High Density)
pins: 1, 2

## GRM1555C1H101GA01D
designator C?, comment 100 pF
CAP CER 100PF 50V NP0 0402; Manufacturer: Murata Electronics North America; Manufacturer Part Number: GRM1555C1H101GA01D; Tolerance: ±2%; Temperature Coefficient: C0G, NP0; Supplier 1: Digi-Key; RoHS: RoHS Compliant; Category: Capacitors; Stock 1: 145962; Pricing 1: 1=0.09, 10=0.038, 50=0.0208, 100=0.0177, 250=0.01444, 500=0.01236, 1000=0.00963, 5000=0.00803 (EUR); Packaging: Cut Tape (CT); Capacitance: 100pF; Voltage - Rated: 50V; Mounting Type: Surface Mount, MLCC; Operating Temperature: -55°C ~ 125°C; Applications: General Purpose; Ratings: -; Package / Case: 0402 (1005 Metric); Size / Dimension: 0.039" L x 0.020" W (1.00mm x 0.50mm); Height - Seated (Max): -; Thickness (Max): 0.022" (0.55mm); Lead Spacing: -; Features: -; Lead Style: -; ComponentLink1URL: http://www.murata.com/~/media/webrenewal/support/library/catalog/products/capacitor/mlcc/c02e.ashx; ComponentLink1Description: http://www.murata.com/~/media/webrenewal/support/library/catalog/products/capacitor/mlcc/c02e.ashx; Supplier Part Number 1: 490-6188-1-ND
footprint CAPC1005X05L (Chip Capacitor, 2-Leads, Body 1,00x0,50mm, IPC High Density)
pins: 1, 2

## GRM1555C1H102JA01D
designator C?, comment 1000pF
CAP CER 1000PF 50V C0G/NP0 0402; Manufacturer: Murata Electronics North America; Manufacturer Part Number: GRM1555C1H102JA01D; Tolerance: ±5%; Temperature Coefficient: C0G, NP0; Supplier 1: Digi-Key; RoHS: RoHS Compliant; Category: Capacitors; Stock 1: 29189; Pricing 1: 1=0.12, 10=0.054, 100=0.0242, 500=0.01726, 1000=0.01355, 2500=0.01232, 5000=0.01134 (EUR); Packaging: Cut Tape (CT); Part Status: Active; Voltage - Rated: 50V; Operating Temperature: -55°C ~ 125°C; Features: -; Ratings: -; Applications: General Purpose; Mounting Type: Surface Mount, MLCC; Package / Case: 0402 (1005 Metric); Size / Dimension: 0.039" L x 0.020" W (1.00mm x 0.50mm); Height - Seated (Max): -; Thickness (Max): 0.022" (0.55mm); Lead Spacing: -; Lead Style: -; ComponentLink1URL: http://www.murata.com/~/media/webrenewal/support/library/catalog/products/capacitor/mlcc/c02e.ashx; ComponentLink1Description: http://www.murata.com/~/media/webrenewal/support/library/catalog/products/capacitor/mlcc/c02e.ashx; Supplier Part Number 1: 490-3244-1-ND
footprint CAPC1005X05L (Chip Capacitor, 2-Leads, Body 1,00x0,50mm, IPC High Density)
pins: 1, 2

## GRM1555C1H620GA01D
designator C?, comment 62 pF
CAP CER 62PF 50V NP0 0402; Manufacturer: Murata Electronics North America; Manufacturer Part Number: GRM1555C1H620GA01D; Tolerance: ±2%; Temperature Coefficient: C0G, NP0; Type: General Purpose MLCC; Brand: Murata Electronics; Dielectric: C0G (NP0); Supplier 1: Digi-Key; RoHS: RoHS Compliant; Category: Capacitors; Stock 1: 36251; Pricing 1: 1=0.1, 10=0.071, 50=0.0388, 100=0.0329, 250=0.02692, 500=0.02302, 1000=0.01793, 5000=0.01494 (EUR); Packaging: Cut Tape (CT); Capacitance: 62pF; Voltage - Rated: 50V; Mounting Type: Surface Mount, MLCC; Operating Temperature: -55°C ~ 125°C; Applications: General Purpose; Ratings: -; Package / Case: 0402 (1005 Metric); Size / Dimension: 0.039" L x 0.020" W (1.00mm x 0.50mm); Height - Seated (Max): -; Thickness (Max): 0.022" (0.55mm); Lead Spacing: -; Features: -; Lead Style: -; ComponentLink1URL: http://www.murata.com/~/media/webrenewal/support/library/catalog/products/capacitor/mlcc/c02e.ashx; ComponentLink1Description: http://www.murata.com/~/media/webrenewal/support/library/catalog/products/capacitor/mlcc/c02e.ashx; Supplier 2: Mouser; Stock 2: 13316; Pricing 2: 1=0.100, 10=0.072, 100=0.027, 1000=0.018, 2500=0.015, 10000=0.013, 20000=0.012, 50000=0.010, 100000=0.008 (EUR); Height: 0.5 mm; Length: 1 mm; Package/Case: 0402 (1005 metric); Product: General Type MLCCs; Series: GRM; Termination Style: SMD/SMT; Voltage Rating DC: 50 V; Width: 0.5 mm; Case Code - in: 0402; Case Code - mm: 1005; Maximum Operating Temperature: + 125 C; Minimum Operating Temperature: - 55 C; Product Category: Low & Medium Capacitance SMD Ceramic Chip Capacitors; Standard Pack Qty: 10000; RoHS - Mouser: Y; Minimum Order Quantity: 1; Reeling: True; ComponentLink2URL: http://www.mouser.com/ds/2/281/c02e-2905.pdf; ComponentLink2Description: http://www.mouser.com/ds/2/281/c02e-2905.pdf; Supplier Part Number 1: 490-8218-1-ND; Supplier Part Number 2: 81-GRM1555C1H620GA1D
footprint CAPC1005X05L (Chip Capacitor, 2-Leads, Body 1,00x0,50mm, IPC High Density)
pins: 1, 2